# Altium schematic symbol library IN-12.SchLib: 1 symbol
Pins are listed as number, name and electrical type; pins without a type are passive.

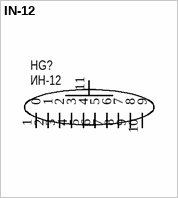
[diagram p0: symbol IN-12]

## IN-12
designator HG?, comment ИН-12
Model: *; Manufacture: *; HelpURL: *; Case: *
footprint PCBComponent_1
pins: 1 0, 2 1, 3 2, 4 3, 5 4, 6 5, 7 6, 8 7, 9 8, 10 9, 11